# Altium footprint library SparkFun-Aesthetics.PCBLIB: 85 footprints (part 3 of 6)
Each footprint in its own frame and in the unit in brackets; x right, y up, seen from the top. Pads: shape width x height; smd on the part's side, far side on the other; paste and mask are expansions set on the pad; w line width, h text height; cw(c..) or ccw(c..) is an arc to the next point about the centre after c.
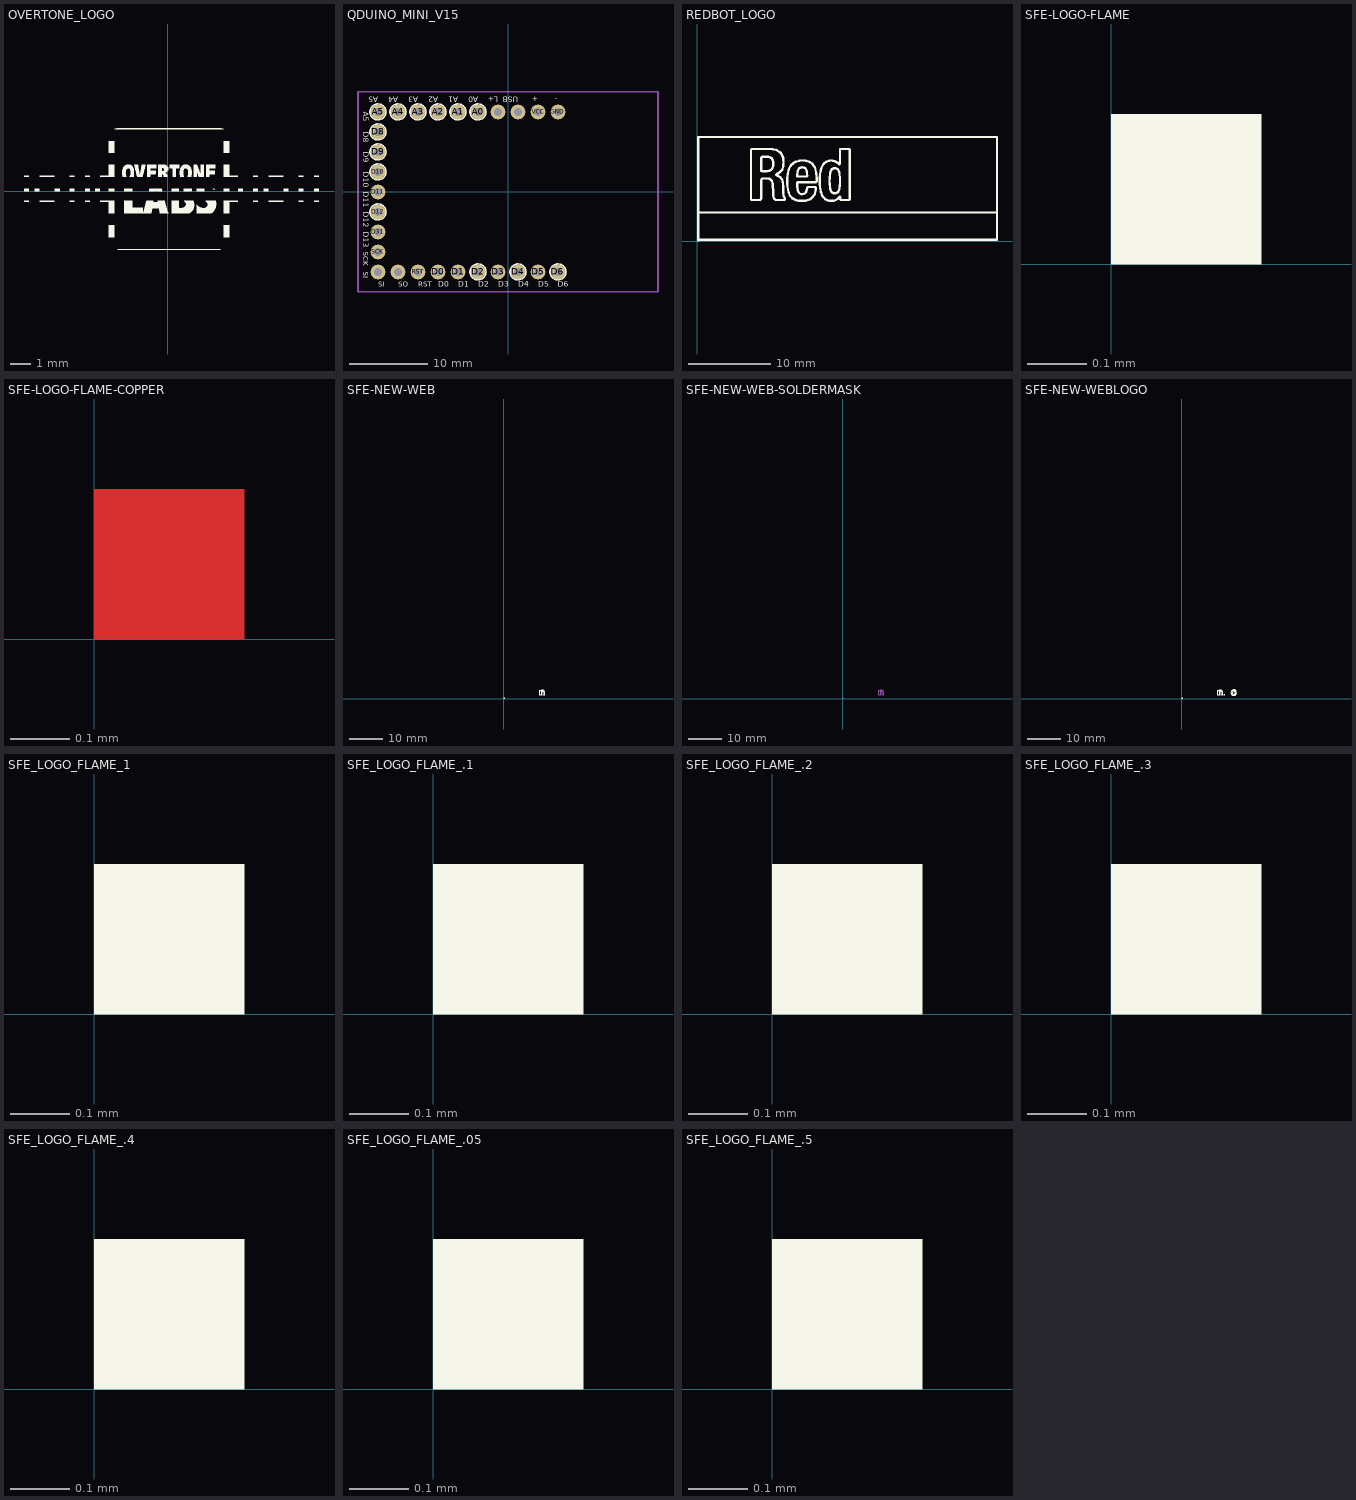
[diagram p2: the footprints below, top view; thin cyan lines are the x and y axes]

## OVERTONE_LOGO [mil]
Top Overlay:
  drawing of 1667 lines, arcs and shapes, not listed

## QDUINO_MINI_V15 [mil]
pads (27):
  round 74 hole 40: A0(-150,400) A1(-250,400) A2(-350,400) A3(-450,400) A4(-550,400) A5(-650,400) D0(-350,-400) D1(-250,-400) D2(-150,-400) D3(-50,-400) D4(50,-400) D5(150,-400) D6(250,-400) D8(-650,300) D9(-650,200) D10(-650,100) D11(-650,0) D12(-650,-100) D31(-650,-200) GND(250,400) LIPO(-50,400) MISO(-550,-400) MOSI(-650,-400) RST(-450,-400) SCK(-650,-300) VCC(150,400) VUSB(50,400)
Top Overlay:
  circle w8: c-650,200 r40
  circle w8: c-650,100 r40
  circle w8: c-650,-100 r40
  circle w8: c250,-400 r40
  circle w8: c-650,300 r40
  circle w8: c-150,-400 r40
  circle w8: c-150,400 r40
  circle w8: c-250,400 r40
  circle w8: c-350,400 r40
  circle w8: c-450,400 r40
  circle w8: c-550,400 r40
  circle w8: c-650,400 r40
  circle w8: c50,-400 r40
  text "A5" at -650,475 h27.2
  text "A4" at -550,475 h27.2
  text "A3" at -450,475 h27.2
  text "A2" at -350,475 h27.2
  text "A1" at -250,475 h27.2
  text "A0" at -150,475 h27.2
  text "L+" at -50,475 h27.2
  text "USB" at 50,475 h27.2
  text "+" at 150,475 h27.2
  text "-" at 250,475 h27.2
  text "D8" at -725,300 h27.2
  text "D9" at -725,200 h27.2
  text "D10" at -725,100 h27.2
  text "D11" at -725,0 h27.2
  text "D12" at -725,-100 h27.2
  text "D13" at -725,-200 h27.2
  text "SCK" at -725,-300 h25.5
  text "SI" at -650,-475 h25.5
  text "SO" at -550,-475 h25.5
  text "D0" at -350,-475 h27.2
  text "D1" at -250,-475 h27.2
  text "D2" at -150,-475 h27.2
  text "D3" at -50,-475 h27.2
  text "D4" at 50,-475 h27.2
  text "D5" at 150,-475 h27.2
  text "D6" at 250,-475 h27.2
  text "A5" at -725,400 h27.2
  text "RST" at -450,-475 h25.5
  text "SI" at -725,-400 h25.5
Bottom Overlay:
  drawing of 186 lines, arcs and shapes, not listed
  text "A4" at -550,337 h27.2
  text "A3" at -450,337 h27.2
  text "A2" at -350,337 h27.2
  text "A1" at -250,337 h27.2
  text "A0" at -150,337 h27.2
  text "VCC" at 150,337 h27.2
  text "GND" at 250,337 h27.2
  text "D9" at -561.5,200 h27.2
  text "D10" at -536.5,85 h27.2
  text "D11" at -536.5,0 h27.2
  text "D12" at -536.5,-96.5 h27.2
  text "RST" at -450,-336.5 h27.2
  text "RX" at -340,-336.5 h27.2
  text "TX" at -250,-336.5 h27.2
  text "SDA" at -150,-336.5 h27.2
  text "SCL" at -50,-336.5 h27.2
  text "D4" at 50,-316.5 h27.2
  text "D5" at 150,-306.5 h27.2
  text "D6" at 250,-336.5 h27.2
  text "Qduino Mini" at 595,10 h59.5
  text "USB+" at 50,337 h27.2
  text "LIPO+" at -50,337 h27.2
  text "I2C" at -105,-110 h27.2
  text "UART" at -305,-155 h27.2
  text "~" at -480,70 h27.2
  text "~" at -525,205 h27.2
  text "~" at 235,-255 h27.2
  text "~" at 135,-225 h27.2
  text "Analog ADC" at 405,-330 h27.2
  text "~" at 350,-365 h27.2
  text "PWM" at 360,-430 h27.2
  text "D13" at -536.5,-161.5 h27.2
  text "~" at -485,-175 h27.2
  text "~" at -480,-15 h27.2
  text "SPI" at -550,-300 h27.2
  text "~" at -60,-240 h27.2
  text "D8" at -725,300 h27.2
  text "D9" at -725,200 h27.2
  text "D10" at -725,100 h27.2
  text "D11" at -725,0 h27.2
  text "D12" at -725,-100 h27.2
  text "D13" at -725,-200 h27.2
  text "SCK" at -725,-300 h25.5
  text "A5" at -725,400 h27.2
  text "SI" at -725,-400 h25.5
  text "SI" at -650,-475 h25.5
  text "SO" at -550,-475 h25.5
  text "D0" at -350,-475 h27.2
  text "D1" at -250,-475 h27.2
  text "D2" at -150,-475 h27.2
  text "D3" at -50,-475 h27.2
  text "D4" at 50,-475 h27.2
  text "D5" at 150,-475 h27.2
  text "D6" at 250,-475 h27.2
  text "RST" at -450,-475 h25.5
  text "A5" at -650,475 h27.2
  text "A4" at -550,475 h27.2
  text "A3" at -450,475 h27.2
  text "A2" at -350,475 h27.2
  text "A1" at -250,475 h27.2
  text "A0" at -150,475 h27.2
  text "L+" at -40,475 h27.2
  text "USB" at 50,475 h27.2
  text "+" at 150,475 h27.2
  text "-" at 250,475 h27.2
Mechanical 16:
  rectangle: -60,390 -40,410
  rectangle: -160,390 -140,410
  rectangle: -260,390 -240,410
  rectangle: -360,390 -340,410
  rectangle: -460,390 -440,410
  rectangle: -560,390 -540,410
  rectangle: -660,390 -640,410
  rectangle: 40,390 60,410
  rectangle: 140,390 160,410
  rectangle: 240,390 260,410
  rectangle: -60,-410 -40,-390
  rectangle: -160,-410 -140,-390
  rectangle: -260,-410 -240,-390
  rectangle: -360,-410 -340,-390
  rectangle: -460,-410 -440,-390
  rectangle: -560,-410 -540,-390
  rectangle: -660,-410 -640,-390
  rectangle: 40,-410 60,-390
  rectangle: 140,-410 160,-390
  rectangle: 240,-410 260,-390
  region: -640,290 -640,310 -660,310 -660,290
  region: -640,190 -640,210 -660,210 -660,190
  region: -640,90 -640,110 -660,110 -660,90
  region: -640,-10 -640,10 -660,10 -660,-10
  region: -640,-110 -640,-90 -660,-90 -660,-110
  region: -640,-210 -640,-190 -660,-190 -660,-210
  region: -640,-310 -640,-290 -660,-290 -660,-310
  lines w8: -750,-500 -750,500 750,500 750,-500 -750,-500

## REDBOT_LOGO [mil]
Top Overlay:
  drawing of 405 lines, arcs and shapes, not listed

## REVISION [mil]
Mechanical 16:
  text "Revision By:" at 0,0 h59.5

## SFE-LOGO-FLAME [mil]
Top Overlay:
  region: 0,0 10,0 10,10 0,10

## SFE-LOGO-FLAME-COPPER [mil]
Top Layer:
  region: 0,0 10,0 10,10 0,10

## SFE-NEW-WEB [mil]
Top Overlay:
  circle w1: c439,91 r0
  region: 0,0 10,0 10,10 0,10
  region: 0,0 10,0 10,10 0,10
  region: 0,0 10,0 10,10 0,10
  region: 0,0 10,0 10,10 0,10
  region: 0,0 10,0 10,10 0,10
  region: 0,0 10,0 10,10 0,10
  region: 0,0 10,0 10,10 0,10
  region: 0,0 10,0 10,10 0,10
  region: 0,0 10,0 10,10 0,10
  lines w1: 422,38 422,100 438,100 438,91 439,91 ccw(c432,99) 440,92 cw(c554.38,-21.38) 441,93 cw(c457.5,83.75) 444,97 cw(c456.18,80.45) 456,101 cw(c460,41.32) 464,101 cw(c462.04,84.57) 474,96 cw(c461.14,82.4) 479,88 cw(c449.68,80.27) 480,80 480,38 464,38 464,76 ccw(c448.56,76.39) 462,84 ccw(c453.86,78.94) 457,88 ccw(c453.01,81.02) 454,89 cw(c48.18,1703.77) 450,88 ccw(c449.88,78.37) 444,86 ccw(c452.02,75.48) 440,81 ccw(c456.13,75.23) 439,75 ccw(c556.04,73.5) 439,72 439,38 422,38

## SFE-NEW-WEB-SOLDERMASK [mil]
Top Solder:
  circle w1: c439,91 r0
  region: 0,0 10,0 10,10 0,10
  region: 0,0 10,0 10,10 0,10
  region: 0,0 10,0 10,10 0,10
  region: 0,0 10,0 10,10 0,10
  region: 0,0 10,0 10,10 0,10
  region: 0,0 10,0 10,10 0,10
  region: 0,0 10,0 10,10 0,10
  region: 0,0 10,0 10,10 0,10
  region: 0,0 10,0 10,10 0,10
  lines w1: 422,38 422,100 438,100 438,91 439,91 ccw(c432,99) 440,92 cw(c554.38,-21.38) 441,93 cw(c457.5,83.75) 444,97 cw(c456.18,80.45) 456,101 cw(c460,41.32) 464,101 cw(c462.04,84.57) 474,96 cw(c461.14,82.4) 479,88 cw(c449.68,80.27) 480,80 480,38 464,38 464,76 ccw(c448.56,76.39) 462,84 ccw(c453.86,78.94) 457,88 ccw(c453.01,81.02) 454,89 cw(c48.18,1703.77) 450,88 ccw(c449.88,78.37) 444,86 ccw(c452.02,75.48) 440,81 ccw(c456.13,75.23) 439,75 ccw(c556.04,73.5) 439,72 439,38 422,38

## SFE-NEW-WEBLOGO [mil]
Top Overlay:
  circle w1: c439,91 r0
  rectangle: 490,38 509,57
  region: 0,0 10,0 10,10 0,10
  region: 0,0 10,0 10,10 0,10
  region: 0,0 10,0 10,10 0,10
  region: 0,0 10,0 10,10 0,10
  region: 0,0 10,0 10,10 0,10
  region: 0,0 10,0 10,10 0,10
  region: 0,0 10,0 10,10 0,10
  region: 0,0 10,0 10,10 0,10
  region: 0,0 10,0 10,10 0,10
  region: 0,0 10,0 10,10 0,10
  region: 0,0 10,0 10,10 0,10
  region: 0,0 10,0 10,10 0,10
  region: 0,0 10,0 10,10 0,10
  lines w1: 613,91 613,103 ; 613,91 612,91 ccw(c612.11,78.29) 602,86 ccw(c618.2,73.88) 598,75 ccw(c658.01,70) 598,65 ccw(c621.4,65.48) 600,56 ccw(c611.43,62.91) 608,50 ccw(c613.23,67.02) 621,51 ccw(c616.55,62.44) 627,56 ccw(c603.95,68.14) 630,68 ccw(c588.13,68.86) 629,78 ccw(c610.04,73.35) 624,87 ccw(c615.89,80.35) 620,90 ccw(c613.5,69.5) 613,91 ; 613,91 613,103 ; 613,103 614,103 cw(c614.51,66.56) 623,102 cw(c616.38,73.75) 635,96 cw(c614.48,72.08) 646,72 cw(c596.02,71.08) 643,54 cw(c618.97,63.6) 627,39 cw(c613.51,82.89) 612,37 cw(c612.9,70.93) 591,45 cw(c602.94,61.94) 586,50 cw(c614.82,69.05) 581,62 cw(c624.76,69.5) 581,77 cw(c611.41,71.14) 596,98 cw(c614.38,66.91) 613,103 ; 422,38 422,100 438,100 438,91 439,91 ccw(c432,99) 440,92 cw(c554.38,-21.38) 441,93 cw(c457.5,83.75) 444,97 cw(c456.18,80.45) 456,101 cw(c460,41.32) 464,101 cw(c462.04,84.57) 474,96 cw(c461.14,82.4) 479,88 cw(c449.68,80.27) 480,80 480,38 464,38 464,76 ccw(c448.56,76.39) 462,84 ccw(c453.86,78.94) 457,88 ccw(c453.01,81.02) 454,89 cw(c48.18,1703.77) 450,88 ccw(c449.88,78.37) 444,86 ccw(c452.02,75.48) 440,81 ccw(c456.13,75.23) 439,75 ccw(c556.04,73.5) 439,72 439,38 422,38

## SFE_LOGO_FLAME_1 [mil]
Top Overlay:
  region: 0,0 10,0 10,10 0,10

## SFE_LOGO_FLAME_.1 [mil]
Top Overlay:
  region: 0,0 10,0 10,10 0,10

## SFE_LOGO_FLAME_.2 [mil]
Top Overlay:
  region: 0,0 10,0 10,10 0,10

## SFE_LOGO_FLAME_.3 [mil]
Top Overlay:
  region: 0,0 10,0 10,10 0,10

## SFE_LOGO_FLAME_.4 [mil]
Top Overlay:
  region: 0,0 10,0 10,10 0,10

## SFE_LOGO_FLAME_.05 [mil]
Top Overlay:
  region: 0,0 10,0 10,10 0,10

## SFE_LOGO_FLAME_.5 [mil]
Top Overlay:
  region: 0,0 10,0 10,10 0,10